# EAGLE library part SSR-53TP (library K-SSR)
53TP Series • Three-phase solid-state relay; Ratings from 25A to 50A @ 48-530 VAC • SCR output for heavy industrial loads • AC or DC control • Zero-crossing (resistive loads) or random-fire (inductive loads) output • LED input status indicator
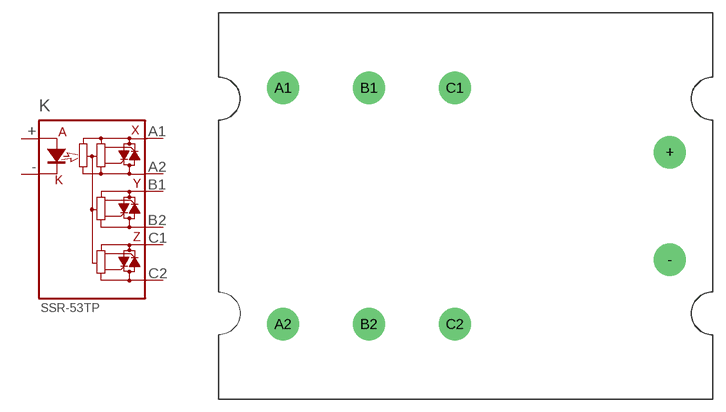
[diagram p0: symbol with the pads of SSR-53TP; footprint SSR-53TP]

Designator prefix K

## SSR-53TP  [SSR-53TP]
+  +  pas
-  -  pas
A1  A1  pas
A2  A2  pas
B1  B1  pas
B2  B2  pas
C1  C1  pas
C2  C2  pas

## Footprint SSR-53TP (pad centres in mm)
drill 2.8: + 22.86,6.35; - 22.86,-6.35; A1 -22.86,13.97; A2 -22.86,-13.97; B1 -12.7,13.97; B2 -12.7,-13.97; C1 -2.54,13.97; C2 -2.54,-13.97